# Altium footprint library CNCPowerSupply.PcbLib: 61 footprints (part 3 of 4)
Each footprint in its own frame and in the unit in brackets; x right, y up, seen from the top. Pads: shape width x height; smd on the part's side, far side on the other; paste and mask are expansions set on the pad; w line width, h text height; cw(c..) or ccw(c..) is an arc to the next point about the centre after c.
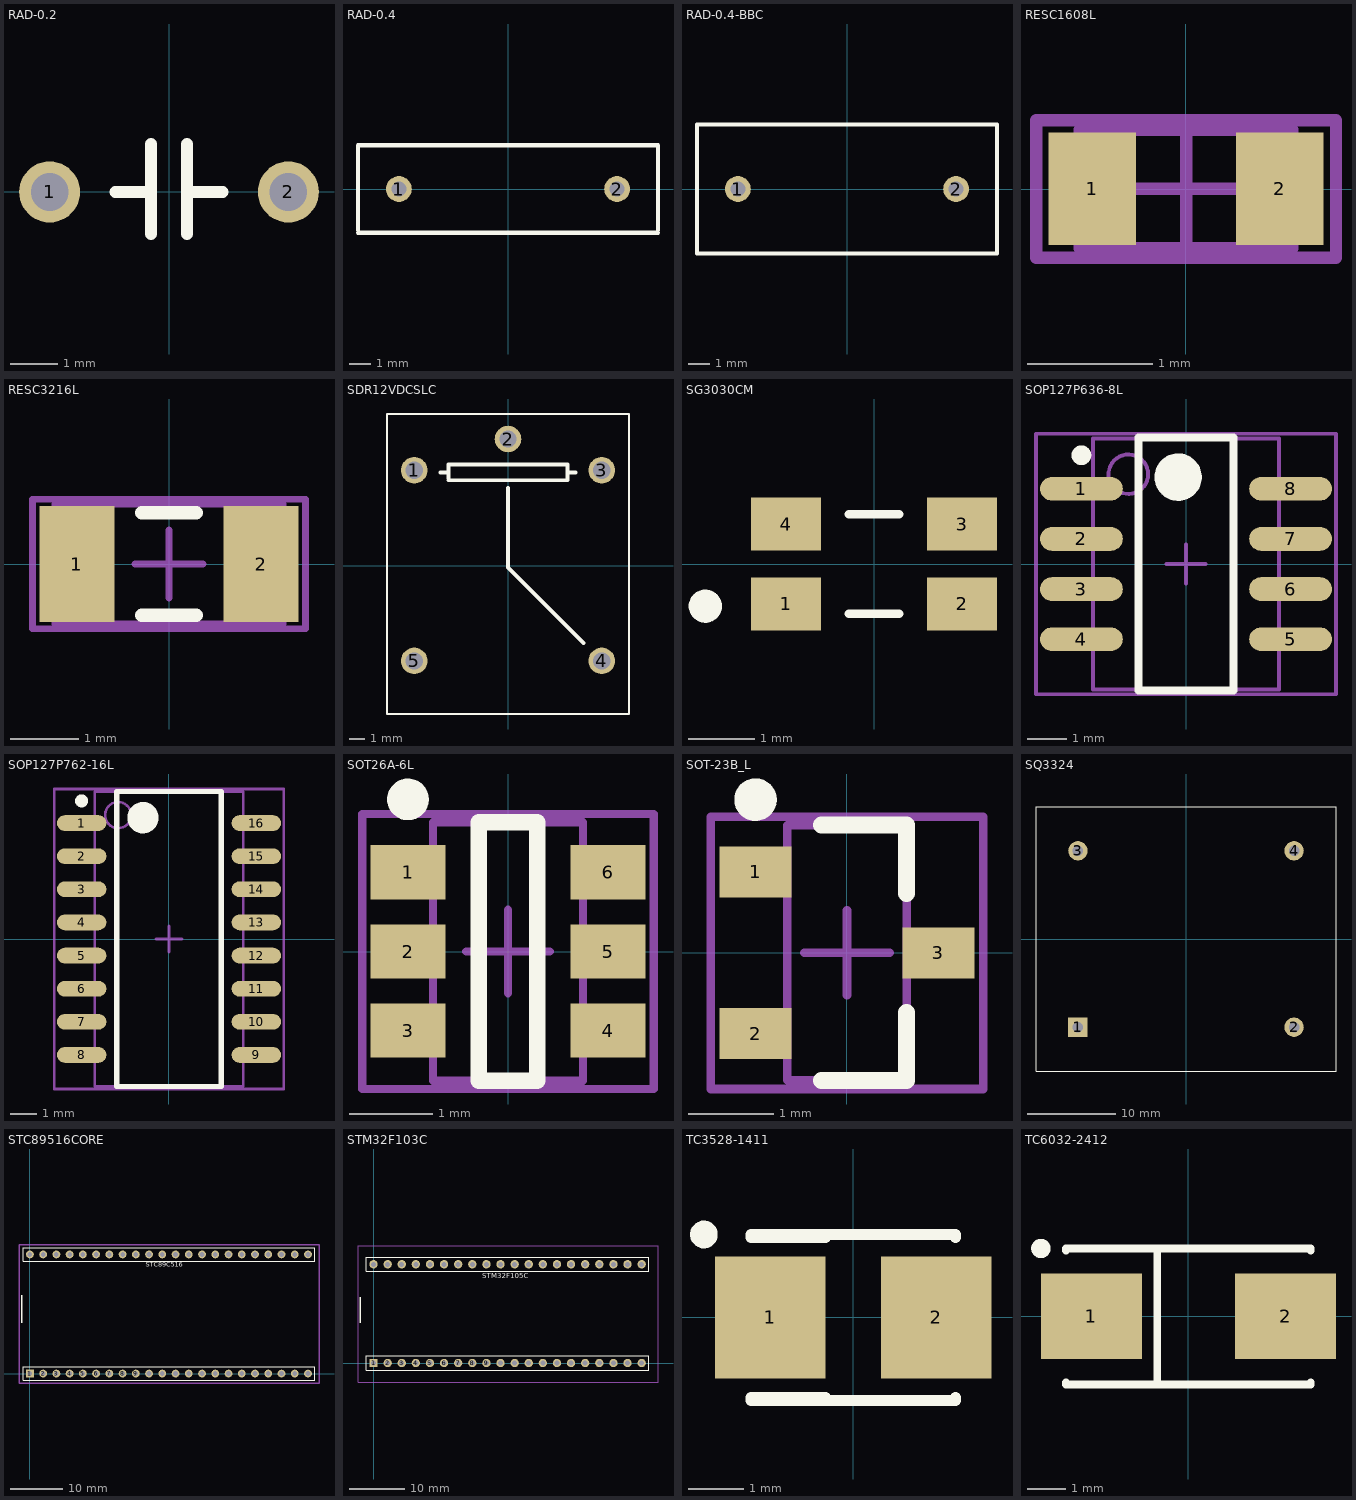
[diagram p2: the footprints below, top view; thin cyan lines are the x and y axes]

## RAD-0.2 [mm] "Radial Cap, Thru-Hole; 2 Leads; 0.2 in Pin Spacing"
pads (2):
  round 1.3 hole 0.8: 1(-2.54,0) 2(2.54,0)
Top Overlay:
  lines w0.254: -1.143,0 -0.381,0 ; -0.381,-0.889 -0.381,1.016 ; 0.381,-0.889 0.381,1.016 ; 0.381,0 1.143,0
3D body: height 6, standoff 0, extent -2.54,-1.905 2.54,2.032

## RAD-0.4 [mm] "Radial Cap, Thru-Hole; 2 Leads; 0.4 in Pin Spacing"
pads (2):
  round 1.2 hole 0.7: 1(-5.08,0) 2(5.08,0)
Top Overlay:
  lines w0.2: -6.985,-2.032 6.985,-2.032 ; -6.985,-1.905 -6.985,2.032 6.985,2.032 6.985,-1.905

## RAD-0.4-BBC [mm] "Radial Cap, Thru-Hole; 2 Leads; 0.4 in Pin Spacing"
pads (2):
  round 1.2 hole 0.7: 1(-5.08,0) 2(5.08,0)
Top Overlay:
  lines w0.2: -6.985,-3 6.985,-3 ; -6.985,-2.921 -6.985,2.921 ; -6.985,3 6.985,3 ; 6.985,-2.921 6.985,2.921

## RESC1608L [mm] "Chip Resistor, Body 1.6x0.8mm, IPC High Density"
height 0.6
pads (2):
  rect 0.7x0.9 smd: 1(-0.75,0) 2(0.75,0)
Mechanical 13:
  lines w0.1: -0.85,-0.475 -0.85,0.475 0.85,0.475 0.85,-0.475 -0.85,-0.475
Mechanical 15:
  lines w0.1: -0.475,0 0.475,0 ; 0,-0.475 0,0.475 ; -1.2,-0.55 -1.2,0.55 1.2,0.55 1.2,-0.55 -1.2,-0.55
3D body: height 0.6, standoff 0, extent -0.85,-0.475 0.85,0.475

## RESC3216L [mm] "Chip Resistor, Body 3.2x1.6mm, IPC High Density"
height 0.71
pads (2):
  rect 1.1x1.7 smd: 1(-1.35,0) 2(1.35,0)
Top Overlay:
  lines w0.2: -0.4,-0.75 0.4,-0.75 ; -0.4,0.75 0.4,0.75
Mechanical 13:
  lines w0.1: -1.675,-0.875 1.675,-0.875 1.675,0.875 -1.675,0.875 -1.675,-0.875
Mechanical 15:
  lines w0.1: -0.5,0 0.5,0 ; 0,-0.5 0,0.5 ; -2,-0.95 2,-0.95 2,0.95 -2,0.95 -2,-0.95
3D body: height 0.71, standoff 0, extent -1.675,-0.875 1.675,0.875

## SDR12VDCSLC [mm] "SDR12VDCSLC"
pads (5):
  round 1.7 hole 1.1: 1(-6,6.1) 2(0,8.1) 3(6,6.1) 4(6,-6.1) 5(-6,-6.1)
Top Overlay:
  lines w0.127: 7.747,9.7 -7.75,9.7 -7.75,-9.5 7.75,-9.5 7.75,9.7
  lines w0.254: -4.318,5.969 -3.81,5.969 ; -3.81,5.461 3.81,5.461 3.81,6.477 -3.81,6.477 -3.81,5.588 ; 0,4.953 0,-0.127 4.826,-4.953 ; 3.81,5.969 4.318,5.969
3D body: height 15.8, standoff 0, extent -7.747,-9.525 7.747,9.652

## SG3030CM [mm]
pads (4):
  rect 1.05x0.8 smd: 1(-1.325,-0.6) 2(1.325,-0.6) 3(1.325,0.6) 4(-1.325,0.6)
Top Overlay:
  circle w0.25: c-2.54,-0.635 r0.125
  lines w0.127: -0.381,-0.75 0.381,-0.75 ; -0.381,0.75 0.381,0.75

## SOP127P636-8L [mm] "SOP, 8-Leads, Body 6x4.7mm, Pitch 1.27mm, IPC High Density"
height 1.5
pads (8):
  oval 2.1x0.6 smd: 1(-2.65,1.905) 2(-2.65,0.635) 3(-2.65,-0.635) 4(-2.65,-1.905) 5(2.65,-1.905) 6(2.65,-0.635) 7(2.65,0.635) 8(2.65,1.905)
Top Overlay:
  circle w0.25: c-2.65,2.755 r0.125
  circle w0.6: c-0.2,2.2 r0.3
  lines w0.2: -1.2,-3.2 -1.2,3.2 1.2,3.2 1.2,-3.2 -1.2,-3.2
Mechanical 13:
  circle w0.1: c-1.46,2.275 r0.5
  lines w0.1: -2.36,-3.175 -2.36,3.175 2.36,3.175 2.36,-3.175 -2.36,-3.175
Mechanical 15:
  lines w0.1: -0.5,0 0.5,0 ; 0,-0.5 0,0.5 ; -3.8,-3.3 -3.8,3.3 3.8,3.3 3.8,-3.3 -3.8,-3.3
3D body: height 1.5, standoff 0, extent -2.36,-3.175 2.36,3.175

## SOP127P762-16L [mm] "16-Pin Small Outline Package 1.27 mm Pitch"
height 2.2
pads (16):
  oval 1.9x0.6 smd: 1(-3.35,4.445) 2(-3.35,3.175) 3(-3.35,1.905) 4(-3.35,0.635) 5(-3.35,-0.635) 6(-3.35,-1.905) 7(-3.35,-3.175) 8(-3.35,-4.445) 9(3.35,-4.445) 10(3.35,-3.175) 11(3.35,-1.905) 12(3.35,-0.635) 13(3.35,0.635) 14(3.35,1.905) 15(3.35,3.175) 16(3.35,4.445)
Top Overlay:
  circle w0.25: c-3.35,5.295 r0.125
  circle w0.6: c-1,4.65 r0.3
  lines w0.2: -2,-5.65 -2,5.65 2,5.65 2,-5.65 -2,-5.65
Mechanical 13:
  circle w0.1: c-1.95,4.75 r0.5
  lines w0.1: -2.85,-5.65 -2.85,5.65 2.85,5.65 2.85,-5.65 -2.85,-5.65
Mechanical 15:
  lines w0.1: -0.5,0 0.5,0 ; 0,-0.5 0,0.5 ; -4.4,-5.75 -4.4,5.75 4.4,5.75 4.4,-5.75 -4.4,-5.75
3D body: height 2.2, standoff 0, extent -2.85,-5.65 2.85,5.65

## SOT26A-6L [mm] "SOT23, 6-Leads, Body 2.9x1.7mm, Pitch 0.95mm, Lead Span 2.8mm, IPC High Density"
height 1.45
pads (6):
  rect 0.9x0.65 smd: 1(-1.2,0.95) 2(-1.2,0) 3(-1.2,-0.95) 4(1.2,-0.95) 5(1.2,0) 6(1.2,0.95)
Top Overlay:
  circle w0.25: c-1.2,1.825 r0.125
  lines w0.2: -0.35,-1.55 -0.35,1.55 0.35,1.55 0.35,-1.55 -0.35,-1.55
Mechanical 13:
  lines w0.1: -0.9,-1.55 0.9,-1.55 0.9,1.55 -0.9,1.55 -0.9,-1.55
Mechanical 15:
  lines w0.1: -0.5,0 0.5,0 ; 0,-0.5 0,0.5 ; -1.75,-1.65 1.75,-1.65 1.75,1.65 -1.75,1.65 -1.75,-1.65
3D body: height 1.45, standoff 0, extent -0.9,-1.55 0.9,1.55

## SOT-23B_L [mm] "SOT23, 3-Leads, Body 2.9x1.3mm, Pitch 0.95mm, Lead Span 2.4mm, IPC High Density"
height 1.14
pads (3):
  rect 0.85x0.6 smd: 1(-1.075,0.95) 2(-1.075,-0.95) 3(1.075,0)
Top Overlay:
  circle w0.25: c-1.075,1.8 r0.125
  lines w0.2: -0.3,-1.5 0.7,-1.5 0.7,-0.7 ; -0.3,1.5 0.7,1.5 0.7,0.7
Mechanical 13:
  lines w0.1: -0.7,-1.5 0.7,-1.5 0.7,1.5 -0.7,1.5 -0.7,-1.5
Mechanical 15:
  lines w0.1: -0.5,0 0.5,0 ; 0,-0.5 0,0.5 ; -1.6,-1.6 1.6,-1.6 1.6,1.6 -1.6,1.6 -1.6,-1.6
3D body: height 1.14, standoff 0, extent -0.7,-1.5 0.7,1.5

## SQ3324 [mm] "SQ3324"
pads (4):
  rect 2.2x2.2 hole 1.2: 1(-12.25,-10)
  round 2.2 hole 1.2: 2(12.25,-10) 3(-12.25,10) 4(12.25,10)
Top Overlay:
  lines w0.127: 17,-15 -17,-15 -17,15 17,15 17,-14.968
3D body: height 22.5, standoff 0, extent -17.018,-14.986 17.018,14.986

## STC89516CORE [mm]
pads (44):
  rect 1.5x1.5 hole 0.9: 1(0,0)
  round 1.5 hole 0.9: 2(2.54,0) 3(5.08,0) 4(7.62,0) 5(10.16,0) 6(12.7,0) 7(15.24,0) 8(17.78,0) 9(20.32,0) 10(22.86,0) 11(25.4,0) 12(27.94,0) 13(30.48,0) 14(33.02,0) 15(35.56,0) 16(38.1,0) 17(40.64,0) 18(43.18,0) 19(45.72,0) 20(48.26,0) 21(50.8,0) 22(53.34,0) 23(53.34,22.86) 24(50.8,22.86) 25(48.26,22.86) 26(45.72,22.86) 27(43.18,22.86) 28(40.64,22.86) 29(38.1,22.86) 30(35.56,22.86) 31(33.02,22.86) 32(30.48,22.86) 33(27.94,22.86) 34(25.4,22.86) 35(22.86,22.86) 36(20.32,22.86) 37(17.78,22.86) 38(15.24,22.86) 39(12.7,22.86) 40(10.16,22.86) 41(7.62,22.86) 42(5.08,22.86) 43(2.54,22.86) 44(0,22.86)
Top Overlay:
  lines w0.2: -1.27,-1.27 -1.27,1.27 0.635,1.27 54.61,1.27 54.61,-1.27 -1.27,-1.27 ; -1.27,21.59 -1.27,24.13 0.635,24.13 54.61,24.13 54.61,21.59 -1.27,21.59
  lines w0.254: -1.524,9.779 -1.524,14.986
  text "STC89C516" at 22.225,20.082 h1.52
Mechanical 13:
  lines w0.254: 55.45,-1.87 -2.09,-1.87 -2.09,24.73 55.45,24.73 55.45,-1.856

## STM32F103C [mm] "STM32F103C Core"
pads (40):
  rect 1.5x1.5 hole 0.9: 1(0,0)
  round 1.5 hole 0.9: 2(2.54,0) 3(5.08,0) 4(7.62,0) 5(10.16,0) 6(12.7,0) 7(15.24,0) 8(17.78,0) 9(20.32,0) 10(22.86,0) 11(25.4,0) 12(27.94,0) 13(30.48,0) 14(33.02,0) 15(35.56,0) 16(38.1,0) 17(40.64,0) 18(43.18,0) 19(45.72,0) 20(48.26,0) 21(48.26,17.78) 22(45.72,17.78) 23(43.18,17.78) 24(40.64,17.78) 25(38.1,17.78) 26(35.56,17.78) 27(33.02,17.78) 28(30.48,17.78) 29(27.94,17.78) 30(25.4,17.78) 31(22.86,17.78) 32(20.32,17.78) 33(17.78,17.78) 34(15.24,17.78) 35(12.7,17.78) 36(10.16,17.78) 37(7.62,17.78) 38(5.08,17.78) 39(2.54,17.78) 40(0,17.78)
Top Overlay:
  lines w0.2: -1.27,-1.27 49.53,-1.27 49.53,1.27 0.635,1.27 -1.27,1.27 -1.27,-1.27 ; -1.27,16.51 49.53,16.51 49.53,19.05 0.635,19.05 -1.27,19.05 -1.27,16.51
  lines w0.254: -2.413,7.239 -2.413,11.811
  text "STM32F105C" at 19.558,14.875 h1.52
Mechanical 13:
  lines w0.127: -2.794,-3.429 -2.794,21.082 51.206,21.082 51.206,-3.429 -2.794,-3.429

## TC3528-1411 [mm] "Capacitor, SM Tantalum; Body 3.5 x 2.8 mm (LxW typ)"
height 2.5
pads (2):
  rect 2x2.2 smd: 1(-1.5,0) 2(1.5,0)
Top Overlay:
  circle w0.25: c-2.7,1.5 r0.125
  lines w0.2: -1.85,-1.5 1.85,-1.5 1.85,-1.45 ; -1.85,-1.45 -0.5,-1.45 ; -1.85,1.45 -0.5,1.45 ; -1.85,1.5 1.85,1.5 1.85,1.45

## TC6032-2412 [mm] "Capacitor, SM Tantalum; Body 6.0 x 3.2 mm (LxW typ)"
height 3.4
pads (2):
  rect 2.6x2.2 smd: 1(-2.5,0) 2(2.5,0)
Top Overlay:
  circle w0.25: c-3.8,1.75 r0.125
  lines w0.2: -3.15,-1.7 -3.15,-1.75 3.15,-1.75 3.15,-1.7 ; -3.15,1.7 -3.15,1.75 3.15,1.75 3.15,1.7 ; -0.8,-1.75 -0.8,1.75